# EAGLE library part MCP73831 (library MCP73831)
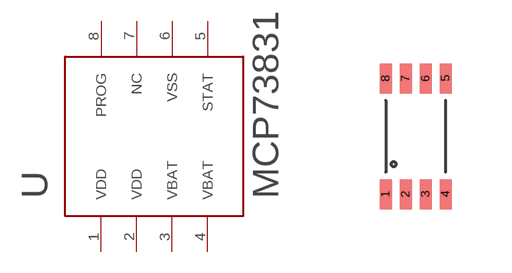
[diagram p0: symbol with the pads of MCP73831-DFN; footprint MCP73831-DFN]

Designator prefix -

## MCP73831  [MCP73831-DFN]
1  VDD
2  VDD
3  VBAT
4  VBAT
5  STAT
6  VSS
7  NC
8  PROG

## Footprint MCP73831-DFN (pad centres in mm)
smd 0.3 x 0.75: 1 -0.75,-1.45; 2 -0.25,-1.45; 3 0.25,-1.45; 4 0.75,-1.45; 5 0.75,1.45; 6 0.25,1.45; 7 -0.25,1.45; 8 -0.75,1.45